# Altium footprint library YS_STM32f103.PcbLib: 56 footprints (part 2 of 4)
Each footprint in its own frame and in the unit in brackets; x right, y up, seen from the top. Pads: shape width x height; smd on the part's side, far side on the other; paste and mask are expansions set on the pad; w line width, h text height; cw(c..) or ccw(c..) is an arc to the next point about the centre after c.
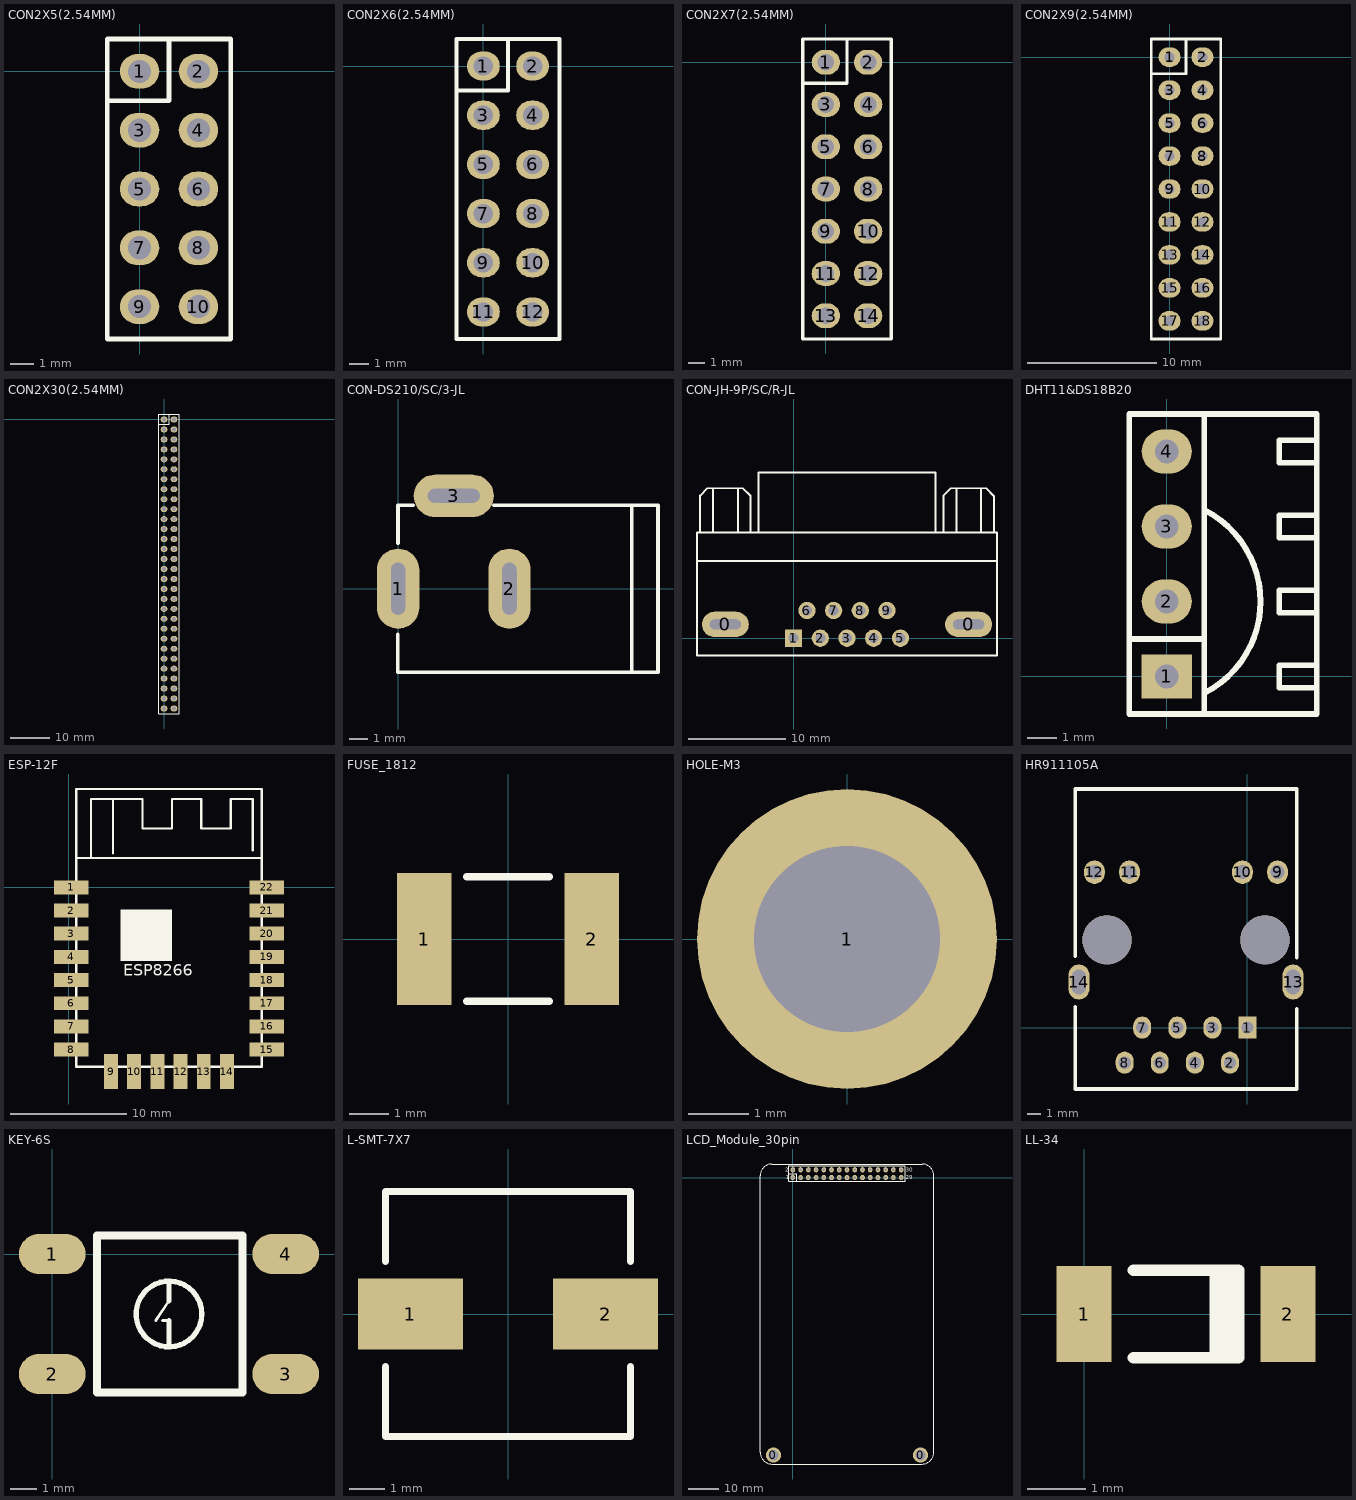
[diagram p1: the footprints below, top view; thin cyan lines are the x and y axes]

## CON2X5(2.54MM) [mm]
pads (10):
  oval 1.7x1.5 hole 1: 1(0,0) 2(2.54,0) 3(0,-2.54) 4(2.54,-2.54) 5(0,-5.08) 6(2.54,-5.08) 7(0,-7.62) 8(2.54,-7.62) 9(0,-10.16) 10(2.54,-10.16)
Top Overlay:
  lines w0.2: -1.397,-1.27 1.27,-1.27 1.27,1.397 ; -1.397,-11.557 -1.397,1.397 3.937,1.397 3.937,-11.557 -1.397,-11.557

## CON2X6(2.54MM) [mm]
pads (12):
  oval 1.7x1.5 hole 1: 1(0,0) 2(2.54,0) 3(0,-2.54) 4(2.54,-2.54) 5(0,-5.08) 6(2.54,-5.08) 7(0,-7.62) 8(2.54,-7.62) 9(0,-10.16) 10(2.54,-10.16) 11(0,-12.7) 12(2.54,-12.7)
Top Overlay:
  lines w0.2: -1.397,-14.097 -1.397,1.397 3.937,1.397 3.937,-14.097 ; -1.397,-1.27 1.27,-1.27 1.27,1.397
  lines w0.203: -1.397,-14.097 3.937,-14.097

## CON2X7(2.54MM) [mm]
pads (14):
  oval 1.7x1.5 hole 1: 1(0,0) 2(2.54,0) 3(0,-2.54) 4(2.54,-2.54) 5(0,-5.08) 6(2.54,-5.08) 7(0,-7.62) 8(2.54,-7.62) 9(0,-10.16) 10(2.54,-10.16) 11(0,-12.7) 12(2.54,-12.7) 13(0,-15.24) 14(2.54,-15.24)
Top Overlay:
  lines w0.2: -1.397,-16.637 -1.397,1.397 3.937,1.397 3.937,-16.637 ; -1.397,-1.27 1.27,-1.27 1.27,1.397
  lines w0.203: -1.397,-16.637 3.937,-16.637

## CON2X9(2.54MM) [mm]
pads (18):
  oval 1.7x1.5 hole 0.8: 1(0,0) 2(2.54,0) 3(0,-2.54) 4(2.54,-2.54) 5(0,-5.08) 6(2.54,-5.08) 7(0,-7.62) 8(2.54,-7.62) 9(0,-10.16) 11(0,-12.7) 12(2.54,-12.7) 13(0,-15.24) 14(2.54,-15.24) 15(0,-17.78) 16(2.54,-17.78) 17(0,-20.32) 18(2.54,-20.32)
  oval 1.7x1.5 hole 0.85: 10(2.54,-10.16)
Top Overlay:
  lines w0.2: -1.397,-1.27 1.27,-1.27 1.27,1.397 ; -1.397,-21.717 -1.397,1.397 3.937,1.397 3.937,-21.717 -1.397,-21.717

## CON2X30(2.54MM) [mm]
pads (60):
  oval 1.7x1.5 hole 1: 1(0,0) 2(2.54,0) 3(0,-2.54) 4(2.54,-2.54) 5(0,-5.08) 6(2.54,-5.08) 7(0,-7.62) 8(2.54,-7.62) 9(0,-10.16) 10(2.54,-10.16) 11(0,-12.7) 12(2.54,-12.7) 13(0,-15.24) 14(2.54,-15.24) 15(0,-17.78) 16(2.54,-17.78) 17(0,-20.32) 18(2.54,-20.32) 19(0,-22.86) 20(2.54,-22.86) 21(0,-25.4) 22(2.54,-25.4) 23(0,-27.94) 24(2.54,-27.94) 25(0,-30.48) 26(2.54,-30.48) 27(0,-33.02) 28(2.54,-33.02) 29(0,-35.56) 30(2.54,-35.56) 31(0,-38.1) 32(2.54,-38.1) 33(0,-40.64) 34(2.54,-40.64) 35(0,-43.18) 36(2.54,-43.18) 37(0,-45.72) 38(2.54,-45.72) 39(0,-48.26) 40(2.54,-48.26) 41(0,-50.8) 42(2.54,-50.8) 43(0,-53.34) 44(2.54,-53.34) 45(0,-55.88) 46(2.54,-55.88) 47(0,-58.42) 48(2.54,-58.42) 49(0,-60.96) 50(2.54,-60.96) 51(0,-63.5) 52(2.54,-63.5) 53(0,-66.04) 54(2.54,-66.04) 55(0,-68.58) 56(2.54,-68.58) 57(0,-71.12) 58(2.54,-71.12) 59(0,-73.66) 60(2.54,-73.66)
Top Overlay:
  lines w0.2: -1.397,-1.27 1.27,-1.27 1.27,1.397 ; -1.397,-75.057 3.937,-75.057 3.937,1.397 -1.397,1.397 -1.397,-75.057

## CON-DS210/SC/3-JL [mil]
pads (3):
  oval 90x170 hole 30 slot 110 at 90 deg: 1(0,0) 2(236.22,0)
  oval 170x90 hole 30 slot 110 at 0 deg: 3(118.11,196.85)
Top Overlay:
  lines w7.87: -0.89,-96.46 -0.89,-177.16 551.18,-177.16 551.18,177.16 202.76,177.16 ; -0.04,96.46 -0.04,176.78 31.5,176.78 ; 495.63,-171.73 495.63,176.27

## CON-JH-9P/SC/R-JL [mil]
pads (11):
  oval 190x102.36 hole 39.37 slot 125.98 at 0 deg: 0(-275.79,55.91) 0(708.07,55.91)
  rect 70x70 hole 40: 1(0,0)
  round 70 hole 40: 2(108.27,0) 3(216.14,0) 4(324.02,0) 5(432.28,0) 6(54.33,111.81) 7(162.2,111.81) 8(270.08,111.81) 9(377.95,111.81)
Top Overlay:
  lines w7.87: -390.35,312.84 822.8,312.84 ; -378.15,426.77 -378.15,576.85 ; -378.15,575 -378.15,576.85 ; -325,426.77 -325,605 ; -225,426.77 -225,606.3 ; -173.43,426.77 -173.43,575 -204.73,606.3 -348.7,606.3 -378.15,576.85 ; 605.71,426.77 605.71,576.85 ; 605.71,575 605.71,576.85 ; 658.86,426.77 658.86,605 ; 758.86,426.77 758.86,606.3 ; 810.43,426.77 810.43,575 779.13,606.3 635.16,606.3 605.71,576.85 ; 822.64,426.77 822.64,-70.08 -390.35,-70.08 -390.35,426.77 822.8,426.77 ; -142.13,426.77 574.41,426.77 574.41,670.08 -142.13,670.08 -142.13,426.77

## DHT11&DS18B20 [mm]
pads (4):
  rect 1.7x1.5 hole 0.8: 1(0,0)
  oval 1.7x1.5 hole 0.8: 2(0,2.54) 3(0,5.08) 4(0,7.62)
Top Overlay:
  lines w0.2: -1.27,1.27 1.27,1.27 ; 1.301,-0.545 ccw(c-0.302,2.54) 1.301,5.625 ; 5.08,-0.381 3.81,-0.381 3.81,0.381 5.08,0.381 ; 5.08,2.159 3.81,2.159 3.81,2.921 5.08,2.921 ; 5.08,4.699 3.81,4.699 3.81,5.461 5.08,5.461 ; 5.08,7.239 3.81,7.239 3.81,8.001 5.08,8.001 ; 1.27,-1.27 -1.27,-1.27 -1.27,8.89 1.27,8.89 ; 1.27,-1.27 1.27,8.89 ; 1.27,-1.27 5.08,-1.27 5.08,8.89 1.27,8.89

## ESP-12F [mm]
pads (22):
  rect 3x1.2 smd: 1(0.203,0) 2(0.203,-2) 3(0.203,-4) 4(0.203,-6) 5(0.203,-8) 6(0.203,-10) 7(0.203,-12) 8(0.203,-14) 15(17.069,-14) 16(17.069,-12) 17(17.069,-10) 18(17.069,-8) 19(17.069,-6) 20(17.069,-4) 21(17.069,-2) 22(17.069,0)
  rect 1.2x3 smd: 9(3.632,-15.9) 10(5.632,-15.9) 11(7.632,-15.9) 12(9.632,-15.9) 13(11.632,-15.9) 14(13.632,-15.9)
Top Overlay:
  rectangle: 4.445,-6.35 8.89,-1.905
  lines w0.2: 0.635,2.54 16.637,2.54 ; 1.905,2.54 1.905,7.62 6.35,7.62 6.35,5.08 8.89,5.08 8.89,7.62 11.43,7.62 11.43,5.08 13.97,5.08 13.97,7.62 15.875,7.62 15.875,3.175 ; 3.81,2.921 3.81,7.62 ; 0.635,-15.494 16.637,-15.494 16.637,8.486 0.635,8.486 0.635,-15.494
  text "ESP8266" at 4.699,-7.62 h1.02

## FUSE_1812 [mm]
pads (2):
  rect 1.4x3.4 smd: 1(-2.15,0) 2(2.15,0)
Top Overlay:
  lines w0.2: -1.05,-1.6 1.05,-1.6 ; -1.05,1.6 1.05,1.6

## HOLE-M3 [mm]
pads (1):
  round 5 hole 3.1: 1(0,0)

## HR911105A [mm]
pads (16):
  rect 1.3x1.6 hole 0.89: 1(0,0)
  oval 1.3x1.6 hole 0.89: 2(-1.27,-2.54) 3(-2.54,0) 4(-3.81,-2.54) 5(-5.08,0) 6(-6.35,-2.54) 7(-7.62,0) 8(-8.89,-2.54)
  oval 1.5x1.7 hole 1.02: 9(2.175,11.25) 10(-0.365,11.25) 11(-8.535,11.25) 12(-11.075,11.25)
  oval 1.524x2.54 hole 1.016 slot 1.778 at 90 deg: 13(3.3,3.3) 14(-12.2,3.3)
  round 3.556 hole 3.556: ""(-10.165,6.35) ""(1.265,6.35)
Top Overlay:
  lines w0.254: -12.45,1.503 -12.45,-4.445 3.55,-4.445 3.55,1.372 ; -12.45,5.147 -12.45,17.27 3.55,17.27 3.55,5.053

## KEY-6S [mil]
pads (4):
  oval 100x60 smd: 1(0,0) 2(0,-180) 3(350,-180) 4(350,0)
Top Overlay:
  circle w8: c175,-90 r49.21
  lines w4: 155.31,-99.84 175,-70.31 ; 165.16,-99.84 175,-99.84
  lines w8: 175,-139.21 175,-99.84 ; 175,-70.31 175,-40.79
  lines w12: 66.89,-208.11 285,-208.11 285,28.11 66.89,28.11 66.89,-208.11

## L-SMT-7X7 [mil]
pads (2):
  rect 118.11x80 smd: 1(-110,0) 2(110,0)
Top Overlay:
  lines w7.87: -137.79,-59.05 -137.79,-137.79 137.8,-137.79 137.8,-59.05 ; -137.79,59.06 -137.79,137.8 137.8,137.8 137.8,59.06

## LCD_Module_30pin [mm]
pads (32):
  round 5 hole 3.4: 0(-6.35,-91.059) 0(41.91,-91.059)
  oval 1.5x1.7 hole 0.8: 1(0,0) 2(0,2.54) 3(2.54,0) 4(2.54,2.54) 5(5.08,0) 6(5.08,2.54) 7(7.62,0) 8(7.62,2.54) 9(10.16,0) 10(10.16,2.54) 11(12.7,0) 12(12.7,2.54) 13(15.24,0) 14(15.24,2.54) 15(17.78,0) 16(17.78,2.54) 17(20.32,0) 18(20.32,2.54) 19(22.86,0) 20(22.86,2.54) 21(25.4,0) 22(25.4,2.54) 23(27.94,0) 24(27.94,2.54) 25(30.48,0) 26(30.48,2.54) 27(33.02,0) 28(33.02,2.54) 29(35.56,0) 30(35.56,2.54)
Top Overlay:
  lines w0.2: -10.668,-90.17 ccw(c-6.858,-90.17) -6.858,-93.98 42.418,-93.98 ccw(c42.418,-90.17) 46.228,-90.17 ; -10.668,0.635 cw(c-6.858,0.635) -6.858,4.445 42.418,4.445 cw(c42.418,0.635) 46.228,0.635 ; -1.27,1.27 1.27,1.27 1.27,-1.27 ; -1.27,-1.27 36.83,-1.27 36.83,3.81 -1.27,3.81 -1.27,-1.27
  lines w0.203: -10.668,-90.17 -10.668,0.635 ; 46.228,-90.17 46.228,0.635
  text "30" at 37.084,1.905 h1.27
  text "29" at 37.084,-0.635 h1.27
  text "1" at -2.286,-0.635 h1.27
  text "2" at -2.54,1.905 h1.27

## LL-34 [mm]
pads (2):
  rect 0.95x1.65 smd: 1(0,0) 2(3.5,0)
Top Overlay:
  lines w0.2: 0.85,-0.75 2.65,-0.75 2.65,0.75 0.85,0.75 ; 2.25,-0.75 2.25,0.75 ; 2.45,-0.75 2.45,0.75